# Altium footprint library SparkFun-Resistors.PCBLIB: 35 footprints (part 2 of 3)
Each footprint in its own frame and in the unit in brackets; x right, y up, seen from the top. Pads: shape width x height; smd on the part's side, far side on the other; paste and mask are expansions set on the pad; w line width, h text height; cw(c..) or ccw(c..) is an arc to the next point about the centre after c.
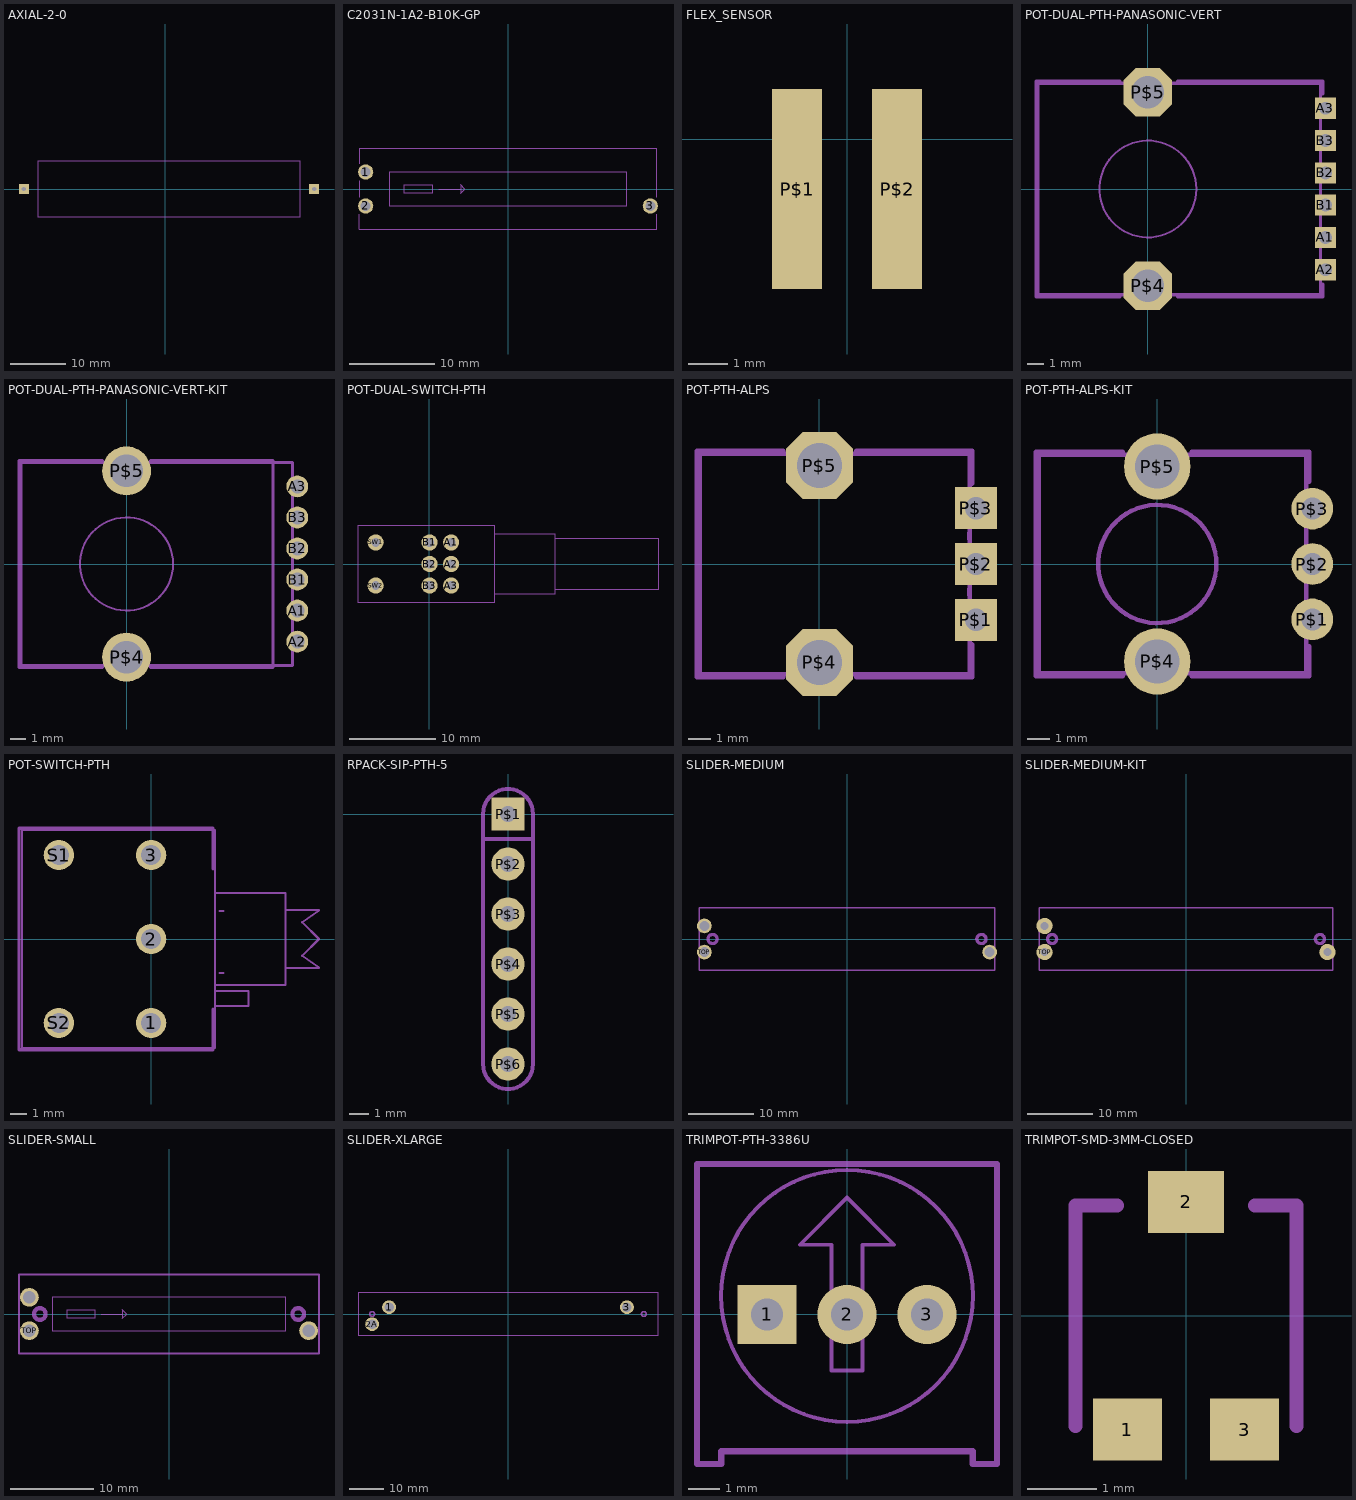
[diagram p1: the footprints below, top view; thin cyan lines are the x and y axes]

## AXIAL-2-0 [mil]
pads (2):
  rect 70x70 / inner round 64.67 / far side rect 70x70 hole 31.5: P$1(-1000,0) P$2(1050,0)
tPlace:
  lines w5: -900,-200 -900,200 950,200 950,-200 -900,-200

## C2031N-1A2-B10K-GP [mm]
pads (3):
  round 1.8 hole 1.2: 1(-16.75,2) 2(-16.75,-2) 3(16.75,-2)
tPlace:
  lines w0.127: -17.5,-3 -17.5,-4.75 17.5,-4.75 17.5,-3 ; -17.5,-1 -17.5,1 ; -17.5,3 -17.5,4.75 17.5,4.75 17.5,-1 ; -14,-2 -14,2 14,2 14,-2 -14,-2
Document:
  lines w0.127: -8.128,0 -5.588,0 ; -5.588,0 -5.588,-0.508 -5.08,0 -5.588,0.508 -5.588,0 ; -12.192,-0.508 -8.89,-0.508 -8.89,0.508 -12.192,0.508 -12.192,-0.508

## FLEX_SENSOR [mm]
pads (2):
  rect 1.27x5.08 smd: P$1(-1.27,-1.27) P$2(1.27,-1.27)

## POT-DUAL-PTH-PANASONIC-VERT [mil]
pads (8):
  rect 51.5x51.5 / inner round 47.58 / far side rect 51.5x51.5 hole 31.5: A1(433.07,-118.11) A2(433.07,-196.85) A3(433.07,196.85) B1(433.07,-39.37) B2(433.07,39.37) B3(433.07,118.11)
  oct 118.11x118.11 / inner round 109.12 / far side oct 118.11x118.11 hole 78.74: P$4(0,-236.22) P$5(0,236.22)
tDocu:
  circle w5: c0,0 r118.11
  lines w8: -267.72,-257.87 421.26,-257.87 421.26,257.87 -267.72,257.87 -267.72,-257.87
tPlace:
  circle w5: c0,0 r118.11
  lines w8: -68.74,-262.87 -272.72,-262.87 -272.72,262.87 -68.74,262.87 ; 72.28,-262.87 426.26,-262.87 426.26,-232.13 ; 72.28,262.87 426.26,262.87 426.26,232.13

## POT-DUAL-PTH-PANASONIC-VERT-KIT [mm]
pads (8):
  round 1.408 hole 0.9: A1(11,-3) A2(11,-5) A3(11,5) B1(11,-1) B2(11,1) B3(11,3)
  round 3.15 hole 2.1: P$4(0,-6) P$5(0,6)
Top Solder:
  circle w0: c0,6 r1.05
  circle w0: c0,-6 r1.05
  circle w0: c11,5 r0.45
  circle w0: c11,3 r0.45
  circle w0: c11,1 r0.45
  circle w0: c11,-1 r0.45
  circle w0: c11,-3 r0.45
  circle w0: c11,-5 r0.45
Bottom Solder:
  drawing of 8 lines, arcs and shapes, not listed
tDocu:
  circle w0.127: c0,0 r3
  lines w0.203: -6.8,-6.55 10.7,-6.55 10.7,6.55 -6.8,6.55 -6.8,-6.55
tPlace:
  circle w0.127: c0,0 r3
  lines w0.203: -1.55,-6.677 -6.927,-6.677 -6.927,6.677 -1.55,6.677 ; 1.55,-6.677 9.43,-6.677 9.43,6.677 1.55,6.677

## POT-DUAL-SWITCH-PTH [mil]
pads (8):
  round 74 hole 39.37: A1(100,98.43) A2(100,0) A3(100,-98.43) B1(1.57,98.43) B2(1.57,0) B3(1.57,-98.43) SW1(-244.49,98.43) SW2(-244.49,-98.43)
tDocu:
  lines w5: 296.85,-137.8 572.44,-137.8 572.44,-118.11 ; 296.85,137.8 572.44,137.8 572.44,118.11 ; 572.44,-118.11 572.44,118.11 ; 572.44,-118.11 1044.88,-118.11 1044.88,118.11 572.44,118.11
tPlace:
  lines w5: -325.2,-177.17 296.85,-177.17 296.85,177.17 -325.2,177.17 -325.2,-177.17

## POT-PTH-ALPS [mm]
pads (5):
  rect 1.88x1.88 / inner round 1.737 / far side rect 1.88x1.88 hole 1: P$1(7,-2.5) P$2(7,0) P$3(7,2.5)
  oct 3x3 / inner round 2.772 / far side oct 3x3 hole 2: P$4(0,-4.4) P$5(0,4.4)
tDocu:
  lines w0.203: -5.346,-4.93 6.73,-4.93 6.73,4.93 -5.346,4.93 -5.346,-4.93
tPlace:
  lines w0.203: -1.625,-5.057 -5.473,-5.057 -5.473,5.057 -1.625,5.057 ; 1.639,-5.057 6.827,-5.057 ; 1.64,5.057 6.827,5.057 6.827,3.6 ; 6.7,-1.4 6.7,-1.1 ; 6.7,1.1 6.7,1.4 ; 6.827,-5.027 6.827,-3.6

## POT-PTH-ALPS-KIT [mm]
pads (5):
  round 1.88 hole 1: P$1(7,-2.5) P$2(7,0) P$3(7,2.5)
  round 3 hole 2: P$4(0,-4.4) P$5(0,4.4)
Top Solder:
  circle w0: c0,4.4 r1
  circle w0: c0,-4.4 r1
  circle w0: c7,2.5 r0.5
  circle w0: c7,0 r0.5
  circle w0: c7,-2.5 r0.5
Bottom Solder:
  circle w0: c0,-4.4 r1.626
  circle w0: c7,2.5 r1.067
  circle w0: c7,0 r1.067
  circle w0: c7,-2.5 r1.067
  circle w0: c0,4.4 r1.626
tDocu:
  lines w0.203: -5.346,-4.93 6.73,-4.93 6.73,4.93 -5.346,4.93 -5.346,-4.93
tPlace:
  circle w0.203: c0,0 r2.667
  lines w0.203: -1.55,-5.057 -5.473,-5.057 -5.473,5.057 -1.55,5.057 ; 1.55,-5.057 6.857,-5.057 6.857,-3.706 ; 1.55,5.057 6.857,5.057 6.857,3.706

## POT-SWITCH-PTH [mm]
pads (5):
  round 1.8 hole 1.2: 1(0,-5) 2(0,0) 3(0,5) S1(-5.5,5) S2(-5.5,-5)
tDocu:
  lines w0.127: 4.064,-2.016 4.318,-2.016 ; 4.064,1.667 4.318,1.667 ; 10,-1.73 8,-1.73 ; 10,-1.7 9,-1 10,0 9,1 10,1.7 ; 10,1.73 8,1.73 ; 3.8,-4 3.8,-3.1 ; 3.8,-4 3.8,-6.5 -7.7,-6.5 -7.7,6.5 3.8,6.5 3.8,2.73 ; 3.8,-4 5.8,-4 5.8,-3.1 3.8,-3.1 ; 3.8,-3.1 3.8,-2.73 ; 3.8,-2.73 3.8,2.73 ; 3.8,-2.73 8,-2.73 8,-1.73 ; 3.8,2.73 8,2.73 8,1.73 ; 8,-1.73 8,1.73
  text "mounting surface" at 4.699,-2.27 h0.63
  text "*2.8mm diameter x 2mm tab at 9 o'clock (from front)" at 6.28,-3.72 h0.63
tPlace:
  lines w0.203: 3.683,-4.191 3.683,-6.604 -7.874,-6.604 -7.874,6.604 3.683,6.604 3.683,4.191

## RPACK-SIP-PTH-5 [mil]
pads (6):
  rect 66x66 / inner round 60.98 / far side rect 66x66 hole 31.5: P$1(0,0)
  round 66 hole 31.5: P$2(0,-100) P$3(0,-200) P$4(0,-300) P$5(0,-400) P$6(0,-500)
tPlace:
  lines w8: -50,-50 -50,0 cw(c0,0) 50,0 50,-50 ; -50,-50 -50,-500 ccw(c0,-500) 50,-500 50,-50 ; -50,-50 50,-50

## SLIDER-MEDIUM [mm]
pads (3):
  round 2.25 hole 1.5: BOTTOM(21.75,-2) TOP(-21.75,-2) WIPER(-21.75,2)
tPlace:
  circle w0.5: c-20.5,0 r0.7
  circle w0.5: c20.5,0 r0.7
  lines w0.203: -22.5,-4.75 22.5,-4.75 22.5,4.75 -22.5,4.75 -22.5,-4.75

## SLIDER-MEDIUM-KIT [mm]
pads (3):
  round 2.5 hole 1.2: BOTTOM(21.65,-2) TOP(-21.65,-2) WIPER(-21.65,2)
Top Solder:
  circle w0: c-21.65,2 r0.6
  circle w0: c-21.65,-2 r0.6
  circle w0: c21.65,-2 r0.6
Bottom Solder:
  circle w0: c-21.65,2 r1.315
  circle w0: c-21.65,-2 r1.315
  circle w0: c21.65,-2 r1.315
tDocu:
  region: -22,1.5 -22,2.5 -21.5,2.5 -21.5,1.5
  region: -22,-2.5 -22,-1.5 -21.5,-1.5 -21.5,-2.5
  region: 21.5,-2.5 21.5,-1.5 22,-1.5 22,-2.5
tPlace:
  circle w0.5: c-20.5,0 r0.7
  circle w0.5: c20.5,0 r0.7
  lines w0.203: -22.5,-4.75 22.5,-4.75 22.5,4.75 -22.5,4.75 -22.5,-4.75

## SLIDER-SMALL [mm]
pads (3):
  round 2.25 hole 1.5: BOTTOM(16.75,-2) TOP(-16.75,-2) WIPER(-16.75,2)
tPlace:
  circle w0.5: c-15.5,0 r0.7
  circle w0.5: c15.5,0 r0.7
  lines w0.127: -14,-2 -14,2 14,2 14,-2 -14,-2
  lines w0.203: -18,-4.75 18,-4.75 18,4.75 -18,4.75 -18,-4.75
Document:
  lines w0.127: -8.128,0 -5.588,0 ; -5.588,0 -5.588,-0.508 -5.08,0 -5.588,0.508 -5.588,0 ; -12.192,-0.508 -8.89,-0.508 -8.89,0.508 -12.192,0.508 -12.192,-0.508

## SLIDER-XLARGE [mil]
pads (3):
  round 160 hole 110.24: 1(-1377.95,78.74) 2A(-1574.8,-118.11) 3(1377.95,78.74)
tPlace:
  circle w19.69: c-1574.8,0 r27.56
  circle w19.69: c1574.8,0 r27.56
  lines w8: -1738.19,-246.06 1738.19,-246.06 1738.19,246.06 -1738.19,246.06 -1738.19,-246.06

## TRIMPOT-PTH-3386U [mil]
pads (3):
  rect 74x74 / inner round 68.37 / far side rect 74x74 hole 40: 1(-100,-0.59)
  round 74 hole 40: 2(0,-0.59) 3(100,-0.59)
tDocu:
  circle w5: c0,22.64 r157.48
  lines w5: -59.06,86.61 -19.69,86.61 -19.69,-70.87 19.69,-70.87 19.69,86.61 59.06,86.61 0,145.67 -59.06,86.61
tPlace:
  lines w8: -187.6,-187.6 -157.48,-187.6 -157.48,-171.85 157.48,-171.85 157.48,-187.6 187.6,-187.6 187.6,187.6 -187.6,187.6 -187.6,-187.6

## TRIMPOT-SMD-3MM-CLOSED [mm]
pads (3):
  rect 1x0.9 smd: 1(-0.85,-1.65) 3(0.85,-1.65)
  rect 1.1x0.9 smd: 2(0,1.65)
tPlace:
  lines w0.203: -1.6,-1.6 -1.6,1.6 -1,1.6 ; 1,1.6 1.6,1.6 1.6,-1.6